# EAGLE library part CLAMP_CONN (library CANcape)
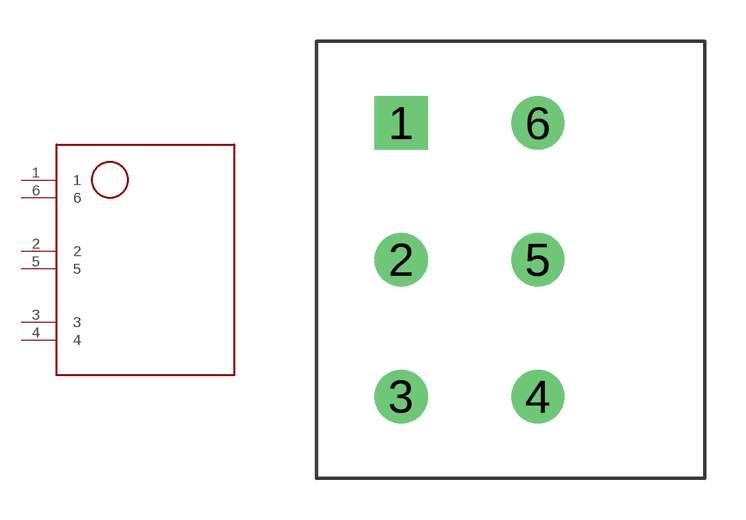
[diagram p0: symbol with the pads of CLAMP_CONN; footprint CLAMP_CONN]

Designator prefix -

## CLAMP_CONN  [CLAMP_CONN]
1  1
2  2
3  3
4  4
5  5
6  6

## Footprint CLAMP_CONN (pad centres in mm)
drill 1.3 square: 1 3.1,13
drill 1.3: 2 3.1,8; 3 3.1,3; 4 8.1,3; 5 8.1,8; 6 8.1,13